# Altium integrated library ABS25-32.768KHZ-T.IntLib: 1 symbol
Pins are listed as number, name and electrical type; pins without a type are passive.

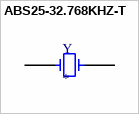
[diagram p0: symbol ABS25-32.768KHZ-T]

## ABS25-32.768KHZ-T
designator Y
32.768kHz Â±20ppm Crystal 12.5pF 50 kOhms 4-SOJ, 5.50mm pitch; MP: ABS25-32.768KHZ; MF: Abracon LLC; Package: 4-4 Abracon LLC; Value: *; Availability: Unavailable; Price: None; SnapEDA_Link: https://www.snapeda.com/parts/ABS25-32.768KHZ/Abracon%20LLC/view-part/478888/?ref=snap
footprint XTAL_ABS25-32.768KHZ-6-1-T
pins: 1, 4